# EAGLE library part F09 (library Projekt)
SUB-D
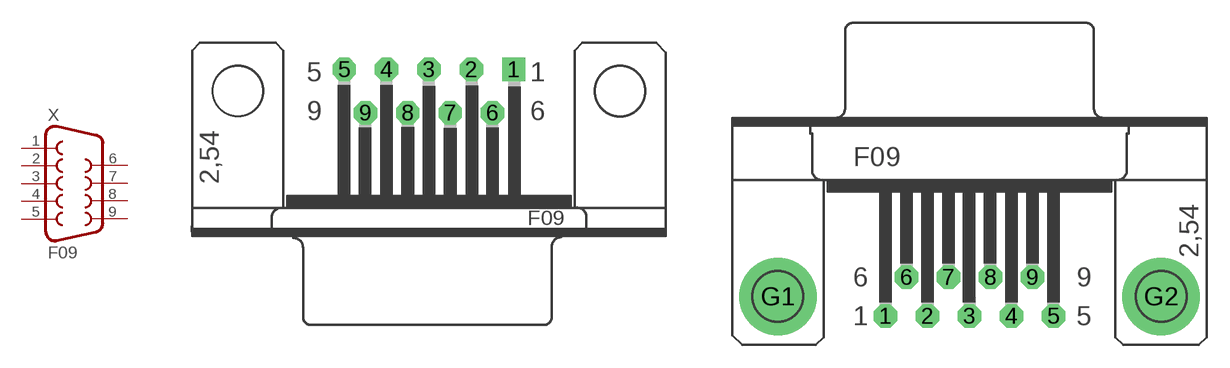
[diagram p17: symbol with the pads of F09-H; footprints F09-H, F09HP]

Designator prefix X

## F09H  [F09-H]
1  1  pas
2  2  pas
3  3  pas
4  4  pas
5  5  pas
6  6  pas
7  7  pas
8  8  pas
9  9  pas

## F09HP  [F09HP]
Pads as for F09-H

## Footprint F09-H (pad centres in mm)
SUB-D 9-pol
drill 1.016 square: 1 5.54,10.92
drill 1.016 octagon: 2 2.77,10.92; 3 0,10.92; 4 -2.77,10.92; 5 -5.54,10.92; 6 4.155,8.08; 7 1.385,8.08; 8 -1.385,8.08; 9 -4.155,8.08
hole 3.2 at 12.495,9.5
hole 3.2 at -12.495,9.5

## Footprint F09HP (pad centres in mm)
SUB-D
drill 1.016 octagon: 1 -5.486,-1.27; 2 -2.743,-1.27; 3 0,-1.27; 4 2.743,-1.27; 5 5.486,-1.27; 6 -4.115,1.27; 7 -1.372,1.27; 8 1.372,1.27; 9 4.115,1.27
drill 3.302 pad 5.08 round: G1 -12.522,0; G2 12.522,0